# Altium footprint library Rich Footprints.PcbLib: 155 footprints (part 2 of 10)
Each footprint in its own frame and in the unit in brackets; x right, y up, seen from the top. Pads: shape width x height; smd on the part's side, far side on the other; paste and mask are expansions set on the pad; w line width, h text height; cw(c..) or ccw(c..) is an arc to the next point about the centre after c.
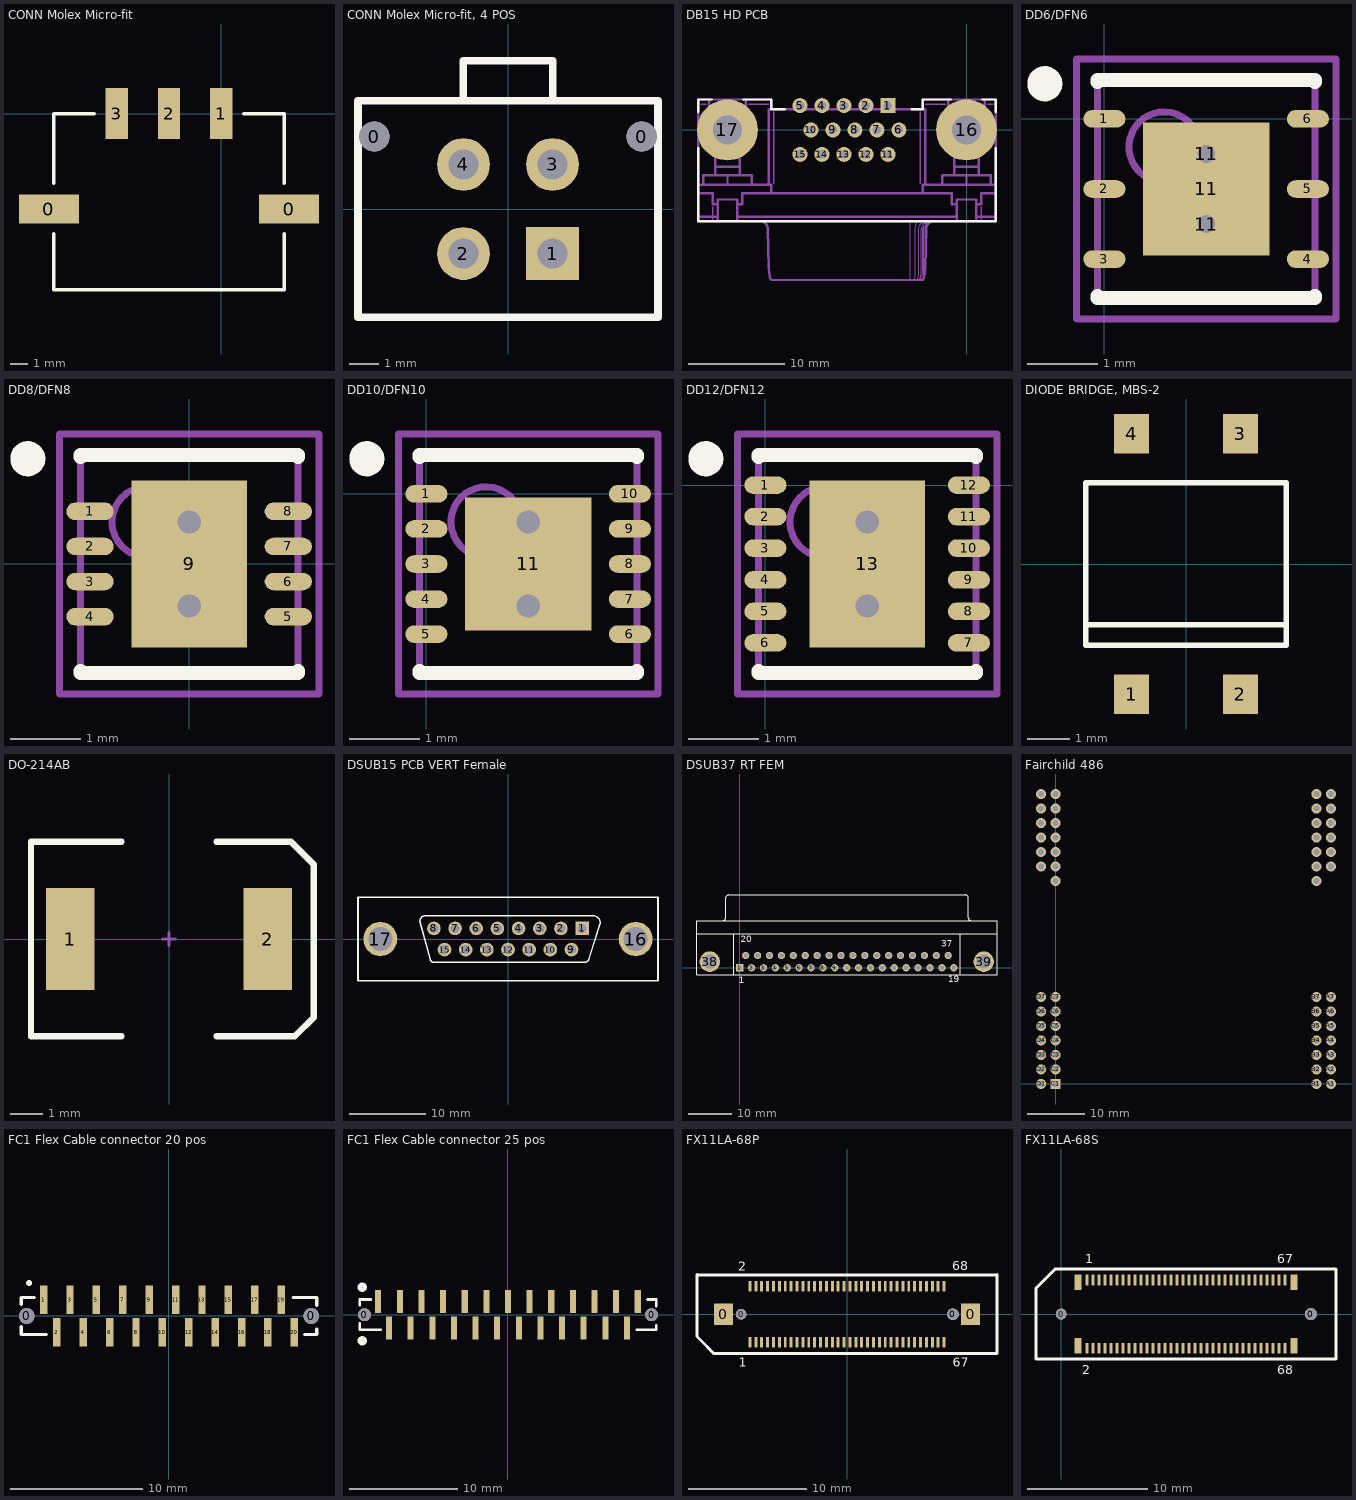
[diagram p1: the footprints below, top view; thin cyan lines are the x and y axes]

## CONN Molex Micro-fit [mm] "SMT, 3-pos"
pads (5):
  rect 3.43x1.65 smd: 0(-9.89,-5.47) 0(3.89,-5.47)
  rect 1.27x2.92 smd: 1(0,0) 2(-3,0) 3(-6,0)
Top Overlay:
  lines w0.2: -9.6,-6.9 -9.6,-10.1 -2.2,-10.1 3.6,-10.1 3.6,-6.9 ; -9.6,-4 -9.6,0 -7.3,0 ; 1.3,0 3.6,0 3.6,-4

## CONN Molex Micro-fit, 4 POS [mil] "Thru Hole Vert 4-pos"
pads (6):
  round 40 hole 40 unplated: 0(-177.17,96.06) 0(177.17,96.06)
  rect 70x70 hole 40: 1(59.06,-59.06)
  round 70 hole 40: 2(-59.06,-59.06) 3(59.06,59.06) 4(-59.06,59.06)
Top Overlay:
  lines w10: -59.06,143.7 -59.06,196.85 59.06,196.85 59.06,143.7 ; -198.82,-143.7 -198.82,143.7 198.82,143.7 198.82,0 198.82,-143.7 -198.82,-143.7

## DB15 HD PCB [mil] "High Density Female"
pads (17):
  rect 62x62 hole 35: 1(-322.05,100)
  round 62 hole 35: 2(-412.2,100) 3(-502.36,100) 4(-592.52,100) 5(-682.68,100) 6(-277.17,0) 7(-367.32,0) 8(-457.48,0) 9(-547.64,0) 10(-637.8,0) 11(-322.05,-100) 12(-412.2,-100) 13(-502.36,-100) 14(-592.52,-100) 15(-682.68,-100)
  round 250 hole 120: 16(0,0) 17(-980,0)
Top Overlay:
  lines w10: -1100,-75 -1100,-375 120,-375 120,-75 ; -1100,75 -1100,125 -1045,125 ; -915,125 -800,125 -800,85 -745,85 ; -225,85 -180,85 -180,125 -65,125 ; 65,125 120,125 120,75
Mechanical 3:
  circle w10: c0,0 r93
  circle w10: c-980,0 r93
  circle w10: c-980,0 r70
  circle w10: c0,0 r70
  lines w2: -230,-614 -230,-375 ; -214,-615 -212,-609 -211,-601 -210,-584 -210,-404 -209,-395 -207,-388 -205,-382 -200,-375 ; -202,-615 -198,-604 -196,-595 -195,-584 -195,-404 -194,-397 -191,-390 -187,-384 -179,-375 ; -195,-615 -190,-606 -188,-601 -186,-592 -185,-584 -185,-404 cw(c-156,-404) -156,-375 ; -190,-615 -185,-607 -183,-602 -182,-597 -181,-592 -180,-584 -180,-404 cw(c-151,-404) -151,-375 ; -175,-599 -175,-404 cw(c-146,-404) -146,-375 ; -170,-479 -170,-404 cw(c-141,-404) -141,-375
  lines w4: -1035,-40 -1035,40 -1020,55 -940,55 -925,40 -925,-40 -940,-55 -1020,-55 -1035,-40 ; -55,-40 -55,40 -40,55 40,55 55,40 55,-40 40,-55 -40,-55 -55,-40
  lines w6: -1090,105 -1065,105 ; -1040,-365 -1040,-315 ; -895,105 -810,105 ; -790,-220 -790,75 ; -190,-220 -190,75 ; -170,105 -85,105 ; 60,-365 60,-315 ; 85,105 110,105
  lines w10: -1100,-355 -1020,-355 ; -1100,-260 -1040,-260 -1040,-305 -1020,-305 ; -1100,-225 -800,-225 -800,-260 ; -1080,-225 -1080,-185 -880,-185 -880,-225 ; -1055,55 -1055,125 ; -1030,-185 -1030,-80 ; -1030,-150 -930,-150 ; -1030,-115 -930,-115 ; -1020,-375 -1020,-285 -940,-285 -940,-375 ; -980,-225 -980,-185 ; -940,-355 -40,-355 ; -940,-305 -920,-305 -920,-260 -60,-260 -60,-305 -40,-305 ; -930,-185 -930,-80 ; -905,55 -905,125 ; -845,-375 cw(c-845,-405) -815,-405 -810,-565 -809,-585 -807,-600 -804,-609 -800,-615 -180,-615 -176,-609 -173,-600 -171,-585 -170,-565 -165,-405 cw(c-135,-405) -135,-375 ; -810,-225 -810,85 -170,85 -170,-225 ; -800,85 -800,125 -1100,125 -1100,-375 120,-375 120,125 -180,125 -180,85 ; -180,-260 -180,-225 120,-225 ; -100,-225 -100,-185 100,-185 100,-225 ; -75,55 -75,125 ; -50,-185 -50,-80 ; -50,-150 50,-150 ; -50,-115 50,-115 ; -40,-375 -40,-285 40,-285 40,-375 ; 0,-225 0,-185 ; 40,-355 120,-355 ; 40,-305 60,-305 60,-260 120,-260 ; 50,-185 50,-80 ; 75,55 75,125 ; -1020,-40 -940,-40 -940,40 -1020,40 -1020,-40 ; -40,-40 40,-40 40,40 -40,40 -40,-40

## DD6/DFN6 [mm] "SON, 6-Leads, Body 3x3 mm, Pitch 1mm, IPC High Density"
height 0.8
pads (9):
  oval 0.6x0.25 smd: 1(0,0) 2(0,-1) 3(0,-2) 4(2.9,-2) 5(2.9,-1) 6(2.9,0)
  round 0.61 hole 0.254 unplated: 11(1.45,-1.5) 11(1.45,-0.5)
  rect 1.8x1.9 smd: 11(1.45,-1)
Top Overlay:
  circle w0.25: c-0.85,0.5 r0.125
  lines w0.2: -0.1,-2.525 -0.1,-2.55 3,-2.55 3,-2.525 ; -0.1,0.525 -0.1,0.55 3,0.55 3,0.525
Mechanical 13:
  circle w0.1: c0.85,-0.4 r0.5
  lines w0.1: -0.1,-2.55 3,-2.55 3,0.55 -0.1,0.55 -0.1,-2.55
Mechanical 15:
  lines w0.1: 0.95,-1 1.95,-1 ; 1.45,-1.5 1.45,-0.5 ; -0.4,-2.85 3.3,-2.85 3.3,0.85 -0.4,0.85 -0.4,-2.85
3D body: height 0.8, standoff 0, extent -0.1,-2.55 3,0.55

## DD8/DFN8 [mm]
pads (9):
  oval 0.675x0.25 smd: 1(-1.412,0.75) 2(-1.412,0.25) 3(-1.412,-0.25) 4(-1.412,-0.75) 5(1.412,-0.75) 6(1.412,-0.25) 7(1.412,0.25) 8(1.412,0.75)
  rect 1.65x2.38 smd: 9(0,0)
via 0,-0.6 diameter 0.66 hole 0.33
via 0,0.6 diameter 0.66 hole 0.33
Top Overlay:
  circle w0.25: c-2.3,1.5 r0.125
  lines w0.2: -1.55,-1.525 -1.55,-1.55 1.55,-1.55 1.55,-1.525 ; -1.55,1.525 -1.55,1.55 1.55,1.55 1.55,1.525
Mechanical 13:
  circle w0.1: c-0.6,0.6 r0.5
  lines w0.1: -1.55,-1.55 -1.55,1.55 1.55,1.55 1.55,-1.55 -1.55,-1.55
Mechanical 15:
  lines w0.1: -0.5,0 0.5,0 ; 0,-0.5 0,0.5 ; -1.85,-1.85 -1.85,1.85 1.85,1.85 1.85,-1.85 -1.85,-1.85
3D body: height 0.8, standoff 0, extent -1.55,-1.55 1.55,1.55

## DD10/DFN10 [mm] "SON, 10-Leads, Body 3x3 mm, Pitch 0.5mm, IPC High Density"
height 0.8
pads (11):
  oval 0.6x0.25 smd: 1(0,0) 2(0,-0.5) 3(0,-1) 4(0,-1.5) 5(0,-2) 6(2.9,-2) 7(2.9,-1.5) 8(2.9,-1) 9(2.9,-0.5) 10(2.9,0)
  rect 1.8x1.9 smd: 11(1.45,-1)
via 1.45,-0.4 diameter 0.66 hole 0.33
via 1.45,-1.6 diameter 0.66 hole 0.33
Top Overlay:
  circle w0.25: c-0.85,0.5 r0.125
  lines w0.2: -0.1,-2.525 -0.1,-2.55 3,-2.55 3,-2.525 ; -0.1,0.525 -0.1,0.55 3,0.55 3,0.525
Mechanical 13:
  circle w0.1: c0.85,-0.4 r0.5
  lines w0.1: -0.1,-2.55 3,-2.55 3,0.55 -0.1,0.55 -0.1,-2.55
Mechanical 15:
  lines w0.1: 0.95,-1 1.95,-1 ; 1.45,-1.5 1.45,-0.5 ; -0.4,-2.85 3.3,-2.85 3.3,0.85 -0.4,0.85 -0.4,-2.85
3D body: height 0.8, standoff 0, extent -0.1,-2.55 3,0.55

## DD12/DFN12 [mm] "SON, 12-Leads, Body 3x3 mm, Pitch 0.45mm, IPC High Density"
height 0.8
pads (13):
  oval 0.6x0.25 smd: 1(0,0) 2(0,-0.45) 3(0,-0.9) 4(0,-1.35) 5(0,-1.8) 6(0,-2.25) 7(2.9,-2.25) 8(2.9,-1.8) 9(2.9,-1.35) 10(2.9,-0.9) 11(2.9,-0.45) 12(2.9,0)
  rect 1.65x2.38 smd: 13(1.45,-1.125)
via 1.45,-1.725 diameter 0.66 hole 0.33
via 1.45,-0.525 diameter 0.66 hole 0.33
Top Overlay:
  circle w0.25: c-0.85,0.375 r0.125
  lines w0.2: -0.1,-2.65 -0.1,-2.675 3,-2.675 3,-2.65 ; -0.1,0.4 -0.1,0.425 3,0.425 3,0.4
Mechanical 13:
  circle w0.1: c0.85,-0.525 r0.5
  lines w0.1: -0.1,-2.675 -0.1,0.425 3,0.425 3,-2.675 -0.1,-2.675
Mechanical 15:
  lines w0.1: 0.95,-1.125 1.95,-1.125 ; 1.45,-1.625 1.45,-0.625 ; -0.4,-2.975 -0.4,0.725 3.3,0.725 3.3,-2.975 -0.4,-2.975
3D body: height 0.8, standoff 0, extent -0.1,-2.675 3,0.425

## DIODE BRIDGE, MBS-2 [mm] "SMD DIODE BRIDGE"
pads (4):
  rect 0.82x0.92 smd: 1(-1.275,-3.05) 2(1.275,-3.05) 3(1.275,3.05) 4(-1.275,3.05)
Top Overlay:
  lines w0.127: -2.35,-1.425 2.35,-1.425 ; -2.35,-1.9 2.35,-1.9 2.35,1.9 -2.35,1.9 -2.35,-1.9

## DO-214AB [mil] "DO-214-AB/SMC; 2 C-Bend Leads; Body 7.9 x 5.9 mm, inc. leads (LxW)"
height 104.33
pads (2):
  rect 60x126 smd: 1(-121.81,0) 2(121.81,0)
Top Overlay:
  lines w7.87: -58.5,-120 -170,-120 -170,120 -58.5,120 ; 58.5,-120 155,-120 178.58,-96.42 178.58,91.43 150.33,120 58.5,120
Mechanical 1:
  lines w3.94: -7.87,0 7.87,0 ; 0,-7.87 0,7.87

## DSUB15 PCB VERT Female [mil] "NorComp p/n 172-015-212R911"
pads (17):
  rect 70x70 hole 47: 1(380.52,54.36)
  round 70 hole 47: 2(271.8,54.36) 3(163.08,54.36) 4(54.36,54.36) 5(-54.36,54.36) 6(-163.08,54.36) 7(-271.8,54.36) 8(-380.52,54.36) 9(326.16,-54.36) 10(217.44,-54.36) 11(108.72,-54.36) 12(0,-54.36) 13(-108.72,-54.36) 14(-217.44,-54.36) 15(-326.16,-54.36)
  round 175 hole 123: 16(656,0) 17(-656,0)
Top Overlay:
  lines w7.87: -770.5,-214.5 770.5,-214.5 770.5,0 770.5,214.5 -770.5,214.5 -770.5,-214.5 ; -452.69,93.01 cw(c-422.85,90.16) -420,120 440,120 cw(c437.77,84.55) 473.22,82.32 416.1,-100.48 cw(c393.29,-97.19) 390,-120 -380,-120 cw(c-381.78,-102.53) -399.25,-104.32 -452.69,93.01

## DSUB37 RT FEM [mm] "Connector; D Subminiature; 37 Position; Right Angle; Pitch 1.385 mm"
height 12.93
pads (39):
  rect 1.69x1.69 hole 1.09: 1(0,0)
  round 1.69 hole 1.09: 2(2.761,0) 3(5.522,0) 4(8.283,0) 5(11.044,0) 6(13.805,0) 7(16.566,0) 8(19.327,0) 9(22.088,0) 10(24.849,0) 11(27.61,0) 12(30.371,0) 13(33.132,0) 14(35.901,0) 15(38.669,0) 16(41.438,0) 17(44.206,0) 18(46.975,0) 19(49.744,0) 20(1.38,2.84) 21(4.149,2.84) 22(6.918,2.84) 23(9.686,2.84) 24(12.455,2.84) 25(15.223,2.84) 26(17.992,2.84) 27(20.761,2.84) 28(23.529,2.84) 29(26.298,2.84) 30(29.066,2.84) 31(31.835,2.84) 32(34.604,2.84) 33(37.372,2.84) 34(40.141,2.84) 35(42.909,2.84) 36(45.678,2.84) 37(48.447,2.84)
  round 4.76 hole 3.26: 38(-6.96,1.42) 39(56.704,1.42)
Top Overlay:
  lines w0.2: -9.93,7.92 59.782,7.92 ; -3.975,10.925 ccw(c-3.975,11.62) -3.28,11.62 -3.28,16.22 ; -3.275,16.225 cw(c-2.58,16.225) -2.58,16.92 52.432,16.92 cw(c52.432,16.225) 53.127,16.225 ; -1.38,-1.58 -1.38,7.92 ; 51.232,-1.58 51.232,7.92 ; 53.132,16.22 53.132,11.62 ccw(c53.827,11.62) 53.827,10.925 ; -9.93,-1.58 -9.93,10.92 59.782,10.92 59.782,-1.58 -9.93,-1.58
  text "37" at 46.817,4.875 h1.5
  text "20" at 0.255,5.945 h1.5
  text "19" at 48.443,-3.355 h1.5
  text "1" at -0.25,-3.555 h1.5

## Fairchild 486 [mil] "486 CCD"
pads (54):
  round 70 hole 40: A1(1900,0) A2(1900,100) A3(1900,200) A4(1900,300) A5(1900,400) A6(1900,500) A7(1900,600) A16(1900,1500) A17(1900,1600) A18(1900,1700) A19(1900,1800) A20(1900,1900) A21(1900,2000) B1(1800,0) B2(1800,100) B3(1800,200) B4(1800,300) B5(1800,400) B6(1800,500) B7(1800,600) B15(1800,1400) B16(1800,1500) B17(1800,1600) B18(1800,1700) B19(1800,1800) B20(1800,1900) B21(1800,2000) C2(0,100) C3(0,200) C4(0,300) C5(0,400) C6(0,500) C7(0,600) C15(0,1400) C16(0,1500) C17(0,1600) C18(0,1700) C19(0,1800) C20(0,1900) C21(0,2000) D1(-100,0) D2(-100,100) D3(-100,200) D4(-100,300) D5(-100,400) D6(-100,500) D7(-100,600) D16(-100,1500) D17(-100,1600) D18(-100,1700) D19(-100,1800) D20(-100,1900) D21(-100,2000)
  rect 70x70 hole 40: C1(0,0)

## FC1 Flex Cable connector 20 pos [mm] "Samtec p/n FC1-20-01-T"
pads (22):
  round 1.19 hole 1.19 unplated: 0(-10.775,0) 0(10.775,0)
  rect 0.56x2.15 smd: 1(-9.5,1.225) 2(-8.5,-1.225) 3(-7.5,1.225) 4(-6.5,-1.225) 5(-5.5,1.225) 6(-4.5,-1.225) 7(-3.5,1.225) 8(-2.5,-1.225) 9(-1.5,1.225) 10(-0.5,-1.225) 11(0.5,1.225) 12(1.5,-1.225) 13(2.5,1.225) 14(3.5,-1.225) 15(4.5,1.225) 16(5.5,-1.225) 17(6.5,1.225) 18(7.5,-1.225) 19(8.5,1.225) 20(9.5,-1.225)
Top Overlay:
  circle w0.254: c-10.6,2.5 r0.1
  lines w0.254: -11.2,-0.8 -11.2,-1.4 -9.3,-1.4 ; -11.2,0.9 -11.2,1.4 -10.2,1.4 ; 9.4,1.4 11.2,1.4 11.2,0.8 ; 10.3,-1.4 11.2,-1.4 11.2,-1

## FC1 Flex Cable connector 25 pos [mm] "Samtec p/n FC1-25-01-T"
pads (27):
  round 1.19 hole 1.19 unplated: 0(-13.275,0) 0(13.275,0)
  rect 0.56x2.15 smd: 1(-12,1.225) 2(-11,-1.225) 3(-10,1.225) 4(-9,-1.225) 5(-8,1.225) 6(-7,-1.225) 7(-6,1.225) 8(-5,-1.225) 9(-4,1.225) 10(-3,-1.225) 11(-2,1.225) 12(-1,-1.225) 13(0,1.225) 14(1,-1.225) 15(2,1.225) 16(3,-1.225) 17(4,1.225) 18(5,-1.225) 19(6,1.225) 20(7,-1.225) 21(8,1.225) 22(9,-1.225) 23(10,1.225) 24(11,-1.225) 25(12,1.225)
Top Overlay:
  circle w0.381: c-13.48,-2.413 r0.236
  circle w0.381: c-13.48,2.54 r0.236
  lines w0.254: -13.7,-0.8 -13.7,-1.4 -11.8,-1.4 ; -13.7,0.9 -13.7,1.4 -12.7,1.4 ; 11.9,-1.4 13.7,-1.4 13.7,-1 ; 12.9,1.4 13.7,1.4 13.7,0.8

## FX11LA-68P [mm] "HIROSE HEADER 68 PIN"
pads (72):
  rect 1.6x1.8 smd: 0(-10.5,0) 0(10.5,0)
  round 0.9 hole 0.9 unplated: 0(-9,0)
  round 1 hole 1 unplated: 0(9,0)
  rect 0.25x0.9 smd: 1(-8.25,-2.375) 2(-8.25,2.375) 3(-7.75,-2.375) 4(-7.75,2.375) 5(-7.25,-2.375) 6(-7.25,2.375) 7(-6.75,-2.375) 8(-6.75,2.375) 9(-6.25,-2.375) 10(-6.25,2.375) 11(-5.75,-2.375) 12(-5.75,2.375) 13(-5.25,-2.375) 14(-5.25,2.375) 15(-4.75,-2.375) 16(-4.75,2.375) 17(-4.25,-2.375) 18(-4.25,2.375) 19(-3.75,-2.375) 20(-3.75,2.375) 21(-3.25,-2.375) 22(-3.25,2.375) 23(-2.75,-2.375) 24(-2.75,2.375) 25(-2.25,-2.375) 26(-2.25,2.375) 27(-1.75,-2.375) 28(-1.75,2.375) 29(-1.25,-2.375) 30(-1.25,2.375) 31(-0.75,-2.375) 32(-0.75,2.375) 33(-0.25,-2.375) 34(-0.25,2.375) 35(0.25,-2.375) 36(0.25,2.375) 37(0.75,-2.375) 38(0.75,2.375) 39(1.25,-2.375) 40(1.25,2.375) 41(1.75,-2.375) 42(1.75,2.375) 43(2.25,-2.375) 44(2.25,2.375) 45(2.75,-2.375) 46(2.75,2.375) 47(3.25,-2.375) 48(3.25,2.375) 49(3.75,-2.375) 50(3.75,2.375) 51(4.25,-2.375) 52(4.25,2.375) 53(4.75,-2.375) 54(4.75,2.375) 55(5.25,-2.375) 56(5.25,2.375) 57(5.75,-2.375) 58(5.75,2.375) 59(6.25,-2.375) 60(6.25,2.375) 61(6.75,-2.375) 62(6.75,2.375) 63(7.25,-2.375) 64(7.25,2.375) 65(7.75,-2.375) 66(7.75,2.375) 67(8.25,-2.375) 68(8.25,2.375)
Top Overlay:
  lines w0.254: -12.75,3.35 12.75,3.35 ; -12.75,3.375 -12.75,0.25 -12.75,-1.9 -12.5,-2.15 -11.3,-3.35 12.75,-3.35 12.75,3.375
  text "68" at 8.95,3.725 h0.76
  text "67" at 8.975,-4.45 h0.76
  text "2" at -9.225,3.675 h0.76
  text "1" at -9.2,-4.45 h0.76

## FX11LA-68S [mm] "HIROSE RECEPTACLE 68 PIN"
pads (74):
  round 0.9 hole 0.9 unplated: 0(0,0)
  rect 0.6x1.3 smd: 0(1.4,-2.65) 0(1.4,2.65) 0(19.4,-2.65) 0(19.4,2.65)
  round 1 hole 1 unplated: 0(20.8,0)
  rect 0.25x0.9 smd: 1(2.15,2.85) 2(2.15,-2.85) 3(2.65,2.85) 4(2.65,-2.85) 5(3.15,2.85) 6(3.15,-2.85) 7(3.65,2.85) 8(3.65,-2.85) 9(4.15,2.85) 10(4.15,-2.85) 11(4.65,2.85) 12(4.65,-2.85) 13(5.15,2.85) 14(5.15,-2.85) 15(5.65,2.85) 16(5.65,-2.85) 17(6.15,2.85) 18(6.15,-2.85) 19(6.65,2.85) 20(6.65,-2.85) 21(7.15,2.85) 22(7.15,-2.85) 23(7.65,2.85) 24(7.65,-2.85) 25(8.15,2.85) 26(8.15,-2.85) 27(8.65,2.85) 28(8.65,-2.85) 29(9.15,2.85) 30(9.15,-2.85) 31(9.65,2.85) 32(9.65,-2.85) 33(10.15,2.85) 34(10.15,-2.85) 35(10.65,2.85) 36(10.65,-2.85) 37(11.15,2.85) 38(11.15,-2.85) 39(11.65,2.85) 40(11.65,-2.85) 41(12.15,2.85) 42(12.15,-2.85) 43(12.65,2.85) 44(12.65,-2.85) 45(13.15,2.85) 46(13.15,-2.85) 47(13.65,2.85) 48(13.65,-2.85) 49(14.15,2.85) 50(14.15,-2.85) 51(14.65,2.85) 52(14.65,-2.85) 53(15.15,2.85) 54(15.15,-2.85) 55(15.65,2.85) 56(15.65,-2.85) 57(16.15,2.85) 58(16.15,-2.85) 59(16.65,2.85) 60(16.65,-2.85) 61(17.15,2.85) 62(17.15,-2.85) 63(17.65,2.85) 64(17.65,-2.85) 65(18.15,2.85) 66(18.15,-2.85) 67(18.65,2.85) 68(18.65,-2.85)
Top Overlay:
  lines w0.254: -2.1,2 -2.1,2.15 ; -2.1,2.15 -0.5,3.75 ; -2.1,2.15 -0.5,3.75 ; -2.1,2.15 -2.1,0 -2.1,-3.75 22.9,-3.75 22.9,3.75 -0.5,3.75
  text "1" at 2,4.25 h0.76
  text "2" at 1.75,-5 h0.76
  text "67" at 18,4.25 h0.76
  text "68" at 18,-5 h0.76